# Altium schematic symbol library MOS管.SchLib: 2 symbols
Pins are listed as number, name and electrical type; pins without a type are passive.

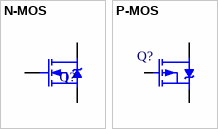
[diagram p0: symbols N-MOS to P-MOS]

## N-MOS
designator Q?
N沟道场效应管
pins: D, G, S

## P-MOS
designator Q?
P沟道场效应管
pins: D, G, S